# EAGLE library part SF3O3GJ26 (library SF3O3GJ26)
5-way tactile switch button. 4 directions and 1 center press. Find on Adafruit part number: SF3O3GJ Created by Nathaniel Dusciuc (10/24/2017) for ECE411.
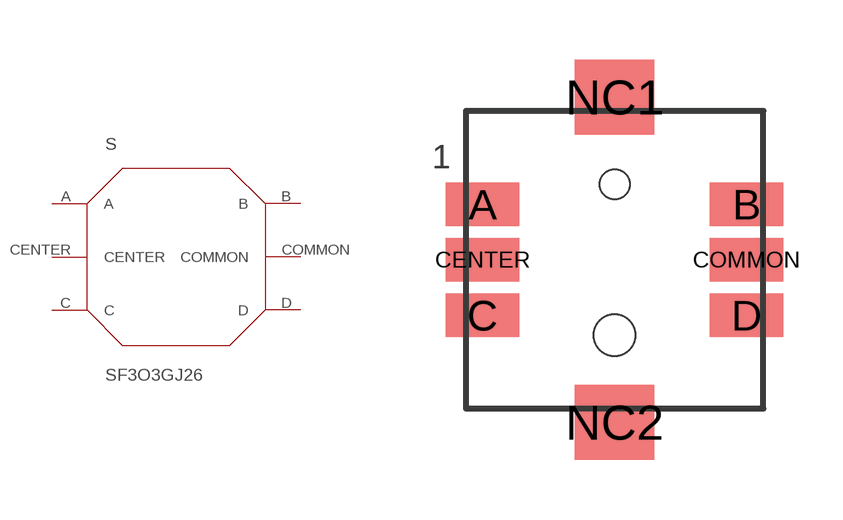
[diagram p0: symbol with the pads of SF3O3GJ26; footprint SF3O3GJ26]

Designator prefix S

## SF3O3GJ26  [SF3O3GJ26]
A  A
B  B
C  C
CENTER  CENTER
COMMON  COMMON
D  D

## Footprint SF3O3GJ26 (pad centres in mm)
smd 1.85 x 1.1: A -3.325,1.4; B 3.325,1.4; C -3.325,-1.4; CENTER -3.325,0; COMMON 3.325,0; D 3.325,-1.4
smd 2 x 1.9: NC1 0,4.1; NC2 0,-4.1
hole 0.75 at 0,1.9
hole 1.05 at 0,-1.9